# EAGLE library part MAG3110 (library ic-Freescale)
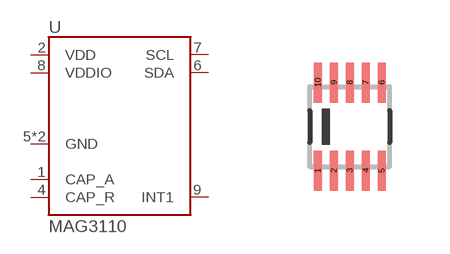
[diagram p0: symbol with the pads of DFN10-0.4; footprint DFN10-0.4]

Designator prefix U

## MAG3110  [DFN10-0.4]
1  CAP_A
2  VDD
4  CAP_R
5  GND
6  SDA
7  SCL
8  VDDIO
9  INT1
10  GND

## Footprint DFN10-0.4 (pad centres in mm)
smd 0.2 x 1: 1 -0.8,-1.1; 2 -0.4,-1.1; 3 0,-1.1; 4 0.4,-1.1; 5 0.8,-1.1; 6 0.8,1.1; 7 0.4,1.1; 8 0,1.1; 9 -0.4,1.1; 10 -0.8,1.1